# Altium schematic symbol library compact_v2-5.SchLib: 11 symbols
Pins are listed as number, name and electrical type; pins without a type are passive.

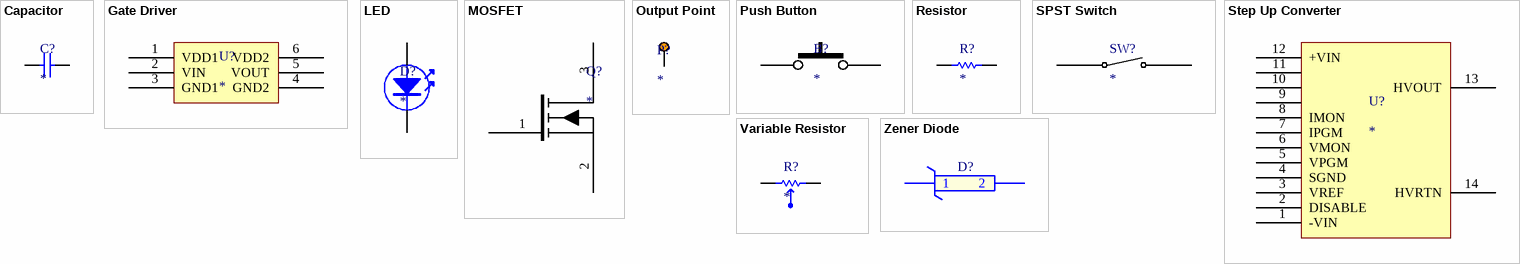
[diagram p0: symbols Capacitor to Zener Diode]

## Capacitor
designator C?
footprint 0.1uF Cer SMD (CAPC2012X94N)
footprint 10uF Cer SMD (CAPC3216X180N)
pins: 1, 2

## Gate Driver
designator U?
ADuM4120
footprint Gate Driver (ADuM4120)
pins: 1 VDD1 (power), 2 VIN, 3 GND1 (power), 4 GND2 (power), 5 VOUT, 6 VDD2 (power)

## LED
designator D?
pins: 1, 2

## MOSFET
designator Q?
IXTL2N4X0
footprint MOSFET
pins: 1 G, 2 S, 3 D

## Output Point
designator P?
Thru hole via
footprint Via
pins: 1

## Push Button
designator B?
pins: 1, 2

## Resistor
designator R?
footprint 4.99 Ohm (RESC3116X65N)
footprint 10M Ohm (OH_MOX910_OHM)
footprint 180 Ohm (RES_RK73H1E_KOA)
footprint 180 Ohm (RES_RK73H1E_KOA)
footprint 330 Ohm (RESC1508X55N)
footprint HV RESISTOR
pins: 1, 2

## SPST Switch
designator SW?
pins: 1, 2

## Step Up Converter
designator U?
HRL30
footprint Step Up Converter (HRL30)
pins: 1 -VIN, 2 DISABLE, 3 VREF, 4 SGND, 5 VPGM, 6 VMON, 7 IPGM, 8 IMON, 9, 10, 11, 12 +VIN, 13 HVOUT, 14 HVRTN

## Variable Resistor
designator R?
(There's a better model)
pins: 1, 2

## Zener Diode
designator D?
KDZVTR16B; Vendor: ROHM Semiconductor; Built_By: EMA_Matt; SourceLibrary: Rohm_2019-09-23; Type: DEV; Manufacturer_Part_Number: KDZVTR16B; Copyright: Copyright (C) 2018 Accelerated Designs. All rights reserved; RefDes: RefDes
footprint Zener Diode (KDZVTR16B)
pins: 1, 2